# EAGLE library part К161ЛЕ1 (library КР1534,К161,К120)
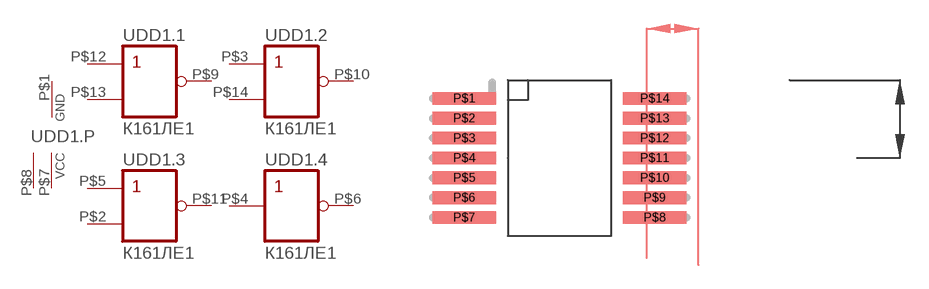
[diagram p7: symbol with the pads of 401.14-1; footprint 401.14-1]

Designator prefix -; gates DD1.1=161LE1 DD1.2=161LE1 DD1.3=161LE1 DD1.4=NOT DD1.P=PWR2

## К161ЛЕ1@120  [401.14-1]
P$1  DD1.P:GND  pwr
P$2  DD1.3:I1  in
P$3  DD1.2:I0  in
P$4  DD1.4:I  in
P$5  DD1.3:I0  in
P$6  DD1.4:O  out
P$7  DD1.P:VCC  pwr
P$8  DD1.P:VCC  pwr
P$9  DD1.1:O  out
P$10  DD1.2:O  out
P$11  DD1.3:O  out
P$12  DD1.1:I0  in
P$13  DD1.1:I1  in
P$14  DD1.2:I1  in

## Footprint 401.14-1 (pad centres in mm)
smd 4 x 0.8: P$1 -6,3.75; P$2 -6,2.5; P$3 -6,1.25; P$4 -6,0; P$5 -6,-1.25; P$6 -6,-2.5; P$7 -6,-3.75; P$8 6,-3.75; P$9 6,-2.5; P$10 6,-1.25; P$11 6,0; P$12 6,1.25; P$13 6,2.5; P$14 6,3.75